# EAGLE library part BSD235N (library SamacSys_Parts)
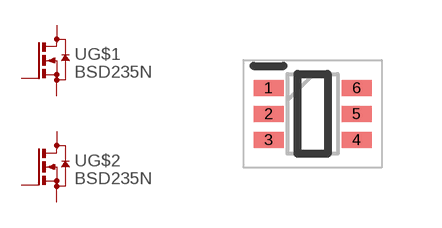
[diagram p3: symbol with the pads of SOT65P210X100-6N; footprint SOT65P210X100-6N]

Designator prefix -; gates G$1=N-MOS G$2=N-MOS

## BSD235N  [SOT65P210X100-6N]
1  G$1:S  pas
2  G$1:G  pas
3  G$2:D  pas
4  G$2:S  pas
5  G$2:G  pas
6  G$1:D  pas

## Footprint SOT65P210X100-6N (pad centres in mm)
SOT-363-1
smd 0.75 x 0.4: 1 -1.1,0.65; 2 -1.1,0; 3 -1.1,-0.65; 4 1.1,-0.65; 5 1.1,0; 6 1.1,0.65